# EAGLE library part MN3005 (library GFE LOGO)
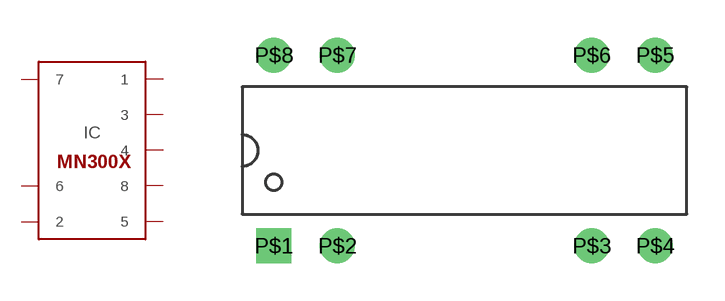
[diagram p4: symbol with the pads of MN3005; footprint MN3005]

Designator prefix IC

## MN3005  [MN3005]
P$1  1
P$2  2
P$3  3
P$4  4
P$5  5
P$6  6
P$7  7
P$8  8

## Footprint MN3005 (pad centres in mm)
drill 0.9 square: P$1 -7.62,-3.81
drill 0.9: P$2 -5.08,-3.81; P$3 5.08,-3.81; P$4 7.62,-3.81; P$5 7.62,3.81; P$6 5.08,3.81; P$7 -5.08,3.81; P$8 -7.62,3.81